# Altium integrated library 2024-03-16_11-19-44.IntLib: 1 symbol
Pins are listed as number, name and electrical type; pins without a type are passive.

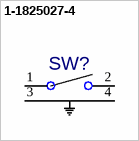
[diagram p0: symbol 1-1825027-4]

## 1-1825027-4
designator SW?  (value not drawn)
Mfr_Name: TE Connectivity; C: Copyright (C) 2016 Accelerated Designs. All rights reserved; Value: 1-1825027-4; Copyright: Copyright (C) 2024 Ultra Librarian. All rights reserved.; Manufacturer_Part_Number: 1-1825027-4
footprint SW2_1825027-E_TE
pins: 1, 2, 3, 4